# EAGLE library part AE5555H-887 (library saw-filters-narrowband)
ЦПАР.433561.55-44-1 Параметр Ед. изм. Нижняя частота Тип. значение Верхняя частота Центральная частота МГц - 887 - Минимальное вносимое затухание дБ - Не более 3.5 - Частота среза по уровню -2 дБ МГц Не более 868.49 - Не менее 905.51 Частота среза по уровню -35 дБ МГц Не менее 850.51 - Не более 957.5 Неравномерность АЧХ дБ - Не более 2 - Групповое время задержки нс - - - Гарантированное затухание дБ - 35 - Температурный диапазон °C -55 22 +85 Материал подложки - - Ниобат лития 64 -
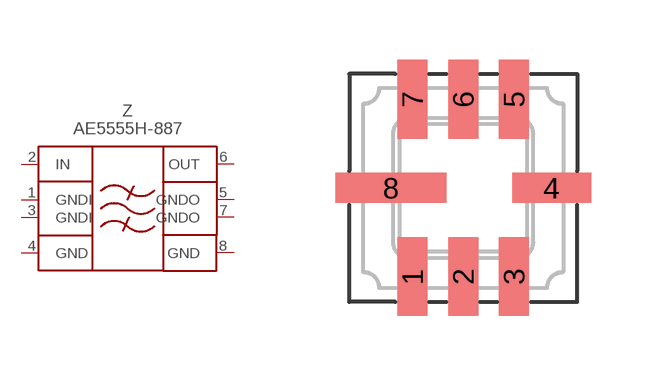
[diagram p121: symbol with the pads of QCC8; footprint QCC8]

Designator prefix Z

## AE5555H-887  [QCC8]
1  GNDI  pas
2  IN  pas
3  GNDI  pas
4  GND  pwr
5  GNDO  pas
6  OUT  pas
7  GNDO  pas
8  GND  pwr

## Footprint QCC8 (pad centres in mm)
smd 0.75 x 1.97: 1 -1.27,-2.215; 2 0,-2.215; 3 1.27,-2.215; 5 1.27,2.215; 6 0,2.215; 7 -1.27,2.215
smd 1.97 x 0.75: 4 2.215,0
smd 2.78 x 0.75: 8 -1.81,0